# EAGLE library part K174UN7 (library k174un7)
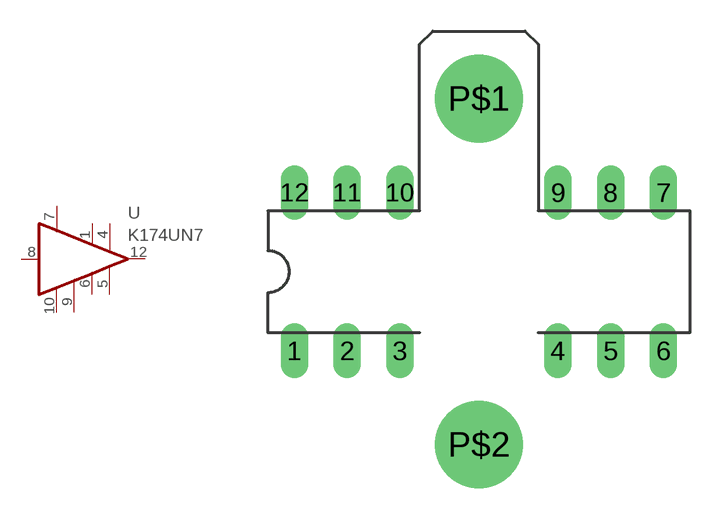
[diagram p0: symbol with the pads of DIL16-12; footprint DIL16-12]

Designator prefix -

## K174UN7  [DIL16-12]
1  1+V  pwr
4  4++U  pas
5  5KOR  pas
6  6FB  pas
7  7FILTR  pas
8  8IN  in
9  9-V  pwr
10  10E  pas
12  12OUT  out

## Footprint DIL16-12 (pad centres in mm)
drill 0.813 long: 1 -8.89,-3.81; 2 -6.35,-3.81; 3 -3.81,-3.81; 4 3.81,-3.81; 5 6.35,-3.81; 6 8.89,-3.81; 7 8.89,3.81; 8 6.35,3.81; 9 3.81,3.81; 10 -3.81,3.81; 11 -6.35,3.81; 12 -8.89,3.81
drill 3.2 pad 4: P$1 0,8.334; P$2 0,-8.334